# Altium schematic symbol library K4B1G04(08_16)46C-128MB.Schlib: 1 symbol
Pins are listed as number, name and electrical type; pins without a type are passive.

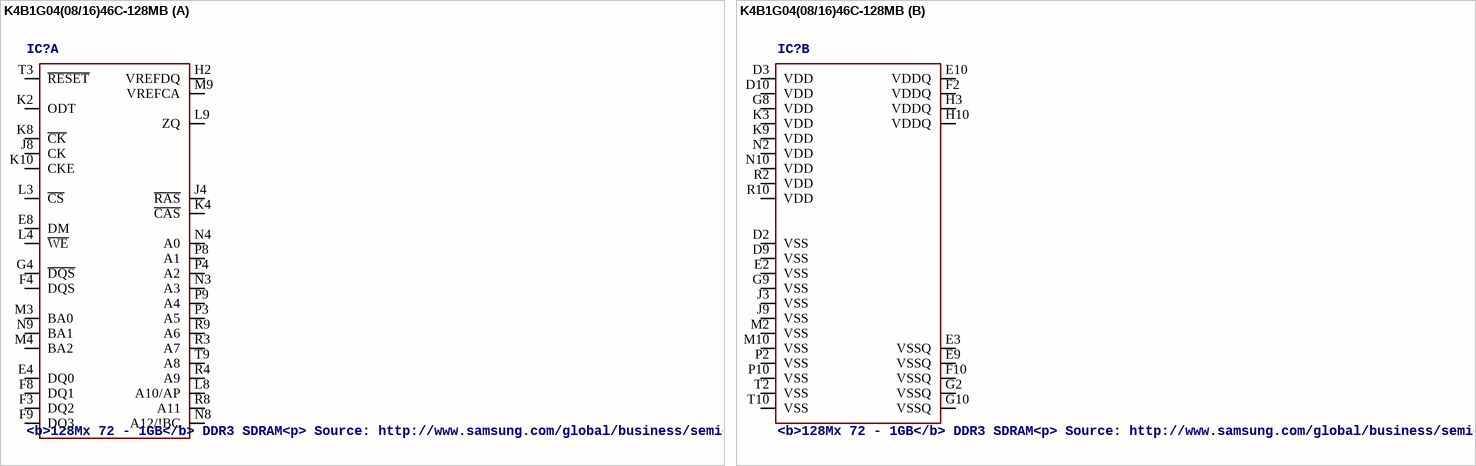
[diagram p0: symbol K4B1G04(08/16)46C-128MB]

## K4B1G04(08/16)46C-128MB
designator IC?, comment <b>128Mx 72 - 1GB</b> DDR3 SDRAM<p> / Source: http://www.samsung.com/global/business/semiconductor/products/dram/downloads/ddr3_product_guide_july_07.pdf
OC_FARNELL: unknown; OC_NEWARK: unknown
footprint FBGA-94-C
part A pins: E4 DQ0, E8 DM, F3 DQ2, F4 DQS, F8 DQ1, F9 DQ3, G4 ~{DQS}, H2 VREFDQ, J4 ~{RAS}, J8 CK, K2 ODT, K4 ~{CAS}, K8 ~{CK}, K10 CKE, L3 ~{CS}, L4 ~{WE}, L8 A10/AP, L9 ZQ, M3 BA0, M4 BA2, M8 NC, M9 VREFCA, N3 A3, N4 A0, N8 A12/!BC, N9 BA1, P3 A5, P4 A2, P8 A1, P9 A4, R3 A7, R4 A9, R8 A11, R9 A6, T3 ~{RESET}, T4 NC, T8 NC, T9 A8
part B pins: D2 VSS, D3 VDD, D9 VSS, D10 VDD, E2 VSS, E3 VSSQ, E9 VSSQ, E10 VDDQ, F2 VDDQ, F10 VSSQ, G2 VSSQ, G8 VDD, G9 VSS, G10 VSSQ, H3 VDDQ, H10 VDDQ, J3 VSS, J9 VSS, K3 VDD, K9 VDD, M2 VSS, M10 VSS, N2 VDD, N10 VDD, P2 VSS, P10 VSS, R2 VDD, R10 VDD, T2 VSS, T10 VSS